# Altium footprint library DP_Slave_PCB.PcbLib: 27 footprints (part 2 of 2)
Each footprint in its own frame and in the unit in brackets; x right, y up, seen from the top. Pads: shape width x height; smd on the part's side, far side on the other; paste and mask are expansions set on the pad; w line width, h text height; cw(c..) or ccw(c..) is an arc to the next point about the centre after c.
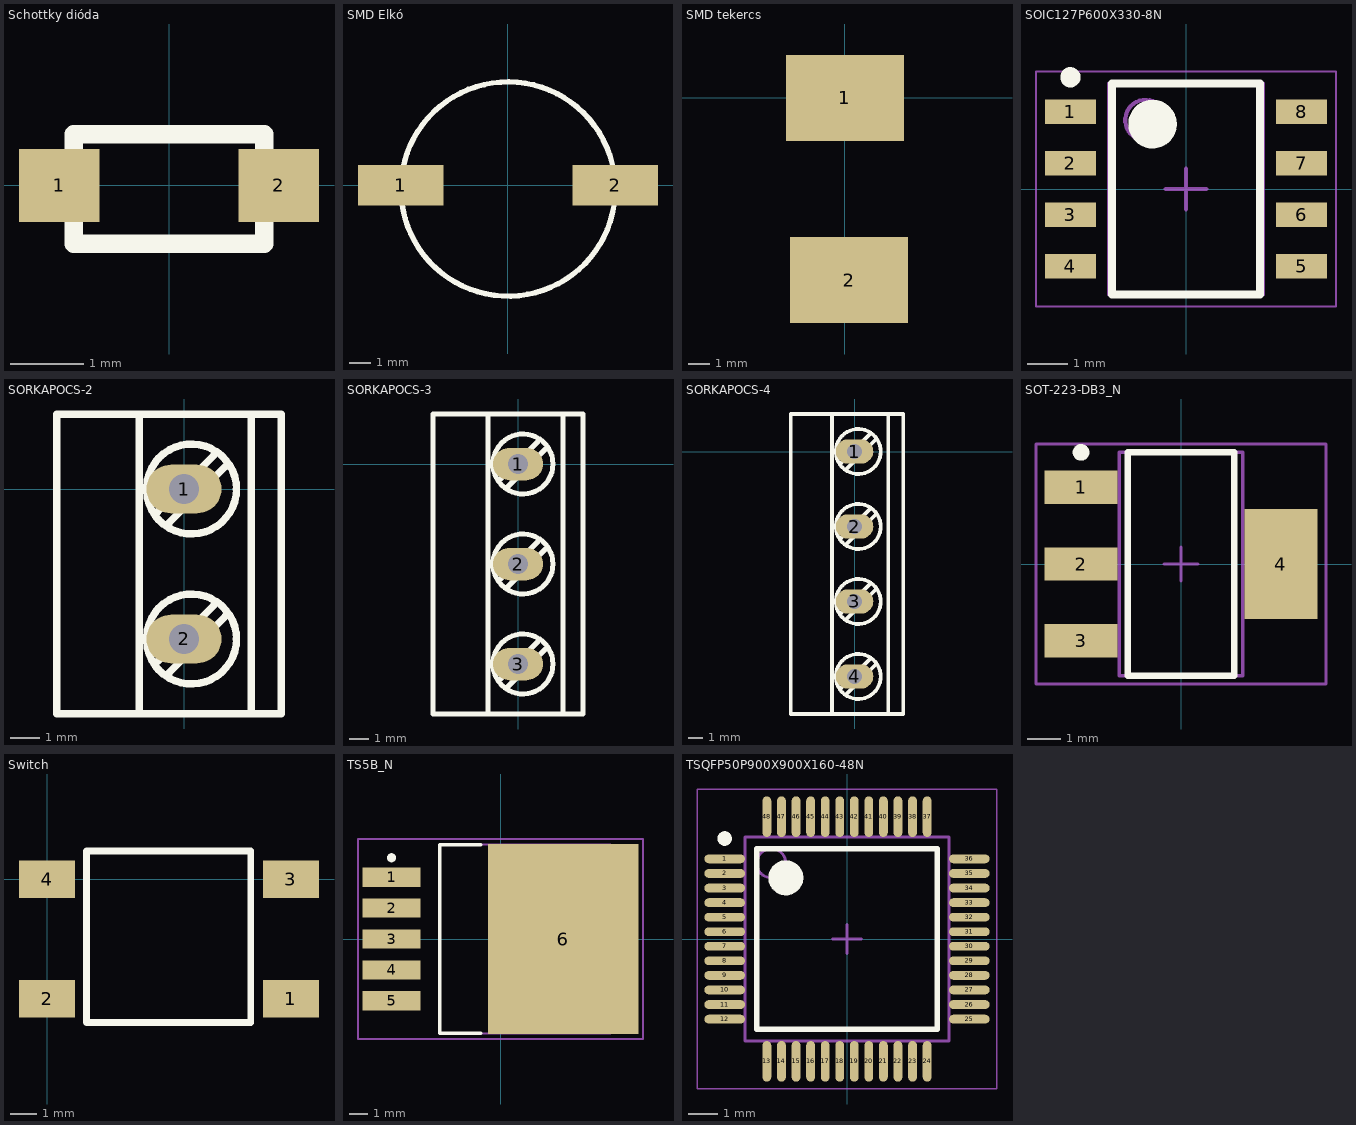
[diagram p1: the footprints below, top view; thin cyan lines are the x and y axes]

## Schottky dióda [mm]
pads (2):
  rect 1.1x1 smd: 1(-1.5,0) 2(1.5,0)
Top Overlay:
  lines w0.254: -1.3,-0.8 -1.3,0.7 1.3,0.7 1.3,-0.8 -1.3,-0.8

## SMD Elkó [mm]
pads (2):
  rect 4x1.9 smd: 1(-5,0) 2(5,0)
Top Overlay:
  lines w0.254: 5.005,-0.177 cw(c0.005,-0.177) 5.005,-0.1

## SMD tekercs [mm]
pads (2):
  rect 5.5x4 smd: 1(0,0) 2(0.2,-8.5)

## SOIC127P600X330-8N [mm]
pads (8):
  rect 1.25x0.6 smd: 1(-2.85,1.905) 2(-2.85,0.635) 3(-2.85,-0.635) 4(-2.85,-1.905) 5(2.85,-1.905) 6(2.85,-0.635) 7(2.85,0.635) 8(2.85,1.905)
Top Overlay:
  circle w0.6: c-0.825,1.6 r0.3
  circle w0.25: c-2.85,2.755 r0.125
  lines w0.2: -1.825,-2.6 1.825,-2.6 1.825,2.6 -1.825,2.6 -1.825,-2.6
Mechanical 13:
  circle w0.1: c-1,1.7 r0.5
  lines w0.1: -1.9,-2.6 1.9,-2.6 1.9,2.6 -1.9,2.6 -1.9,-2.6
Mechanical 15:
  lines w0.05: -3.7,-2.9 3.7,-2.9 3.7,2.9 -3.7,2.9 -3.7,-2.9
  lines w0.1: -0.5,0 0.5,0 ; 0,-0.5 0,0.5
3D body: height 3.3, standoff 0, extent -2.997,-2.6 2.997,2.6

## SORKAPOCS-2 [mil]
pads (2):
  oval 100x65 hole 40: 1(0,0) 2(0,-200)
Top Overlay:
  circle w10: c10,-200 r60
  circle w10: c10,0 r60
  lines w10: -60,-300 -60,100 ; -35,-230 40,-155 ; -35,-30 40,45 ; -20,-245 55,-170 ; -20,-45 55,30 ; 90,-300 90,100 ; -170,-300 -170,100 130,100 130,-300 -170,-300

## SORKAPOCS-3 [mil]
pads (3):
  oval 100x65 hole 40: 1(0,0) 2(0,-200) 3(0,-400)
Top Overlay:
  circle w10: c10,0 r60
  circle w10: c10,-200 r60
  circle w10: c10,-400 r60
  lines w10: -60,-500 -60,100 ; -35,-430 40,-355 ; -35,-230 40,-155 ; -35,-30 40,45 ; -20,-445 55,-370 ; -20,-245 55,-170 ; -20,-45 55,30 ; 90,-500 90,100 ; -170,-500 130,-500 130,100 -170,100 -170,-500

## SORKAPOCS-4 [mil]
pads (4):
  oval 100x65 hole 40: 1(0,0) 2(0,-200) 3(0,-400) 4(0,-600)
Top Overlay:
  circle w10: c10,-600 r60
  circle w10: c10,0 r60
  circle w10: c10,-200 r60
  circle w10: c10,-400 r60
  lines w10: -60,-700 -60,100 ; -35,-630 40,-555 ; -35,-430 40,-355 ; -35,-230 40,-155 ; -35,-30 40,45 ; -20,-645 55,-570 ; -20,-445 55,-370 ; -20,-245 55,-170 ; -20,-45 55,30 ; 90,-700 90,100 ; -170,-700 130,-700 130,100 -170,100 -170,-700

## SOT-223-DB3_N [mm]
pads (4):
  rect 2.2x1 smd: 1(-3,2.3) 2(-3,0) 3(-3,-2.3)
  rect 2.2x3.3 smd: 4(3,0)
Top Overlay:
  circle w0.25: c-3,3.35 r0.125
  lines w0.2: -1.6,-3.35 -1.6,3.35 1.6,3.35 1.6,-3.35 -1.6,-3.35
Mechanical 13:
  lines w0.1: -1.85,-3.35 -1.85,3.35 1.85,3.35 1.85,-3.35 -1.85,-3.35
Mechanical 15:
  lines w0.1: -0.5,0 0.5,0 ; 0,-0.5 0,0.5 ; -4.35,-3.6 -4.35,3.6 4.35,3.6 4.35,-3.6 -4.35,-3.6
3D body: height 1.8, standoff 0, extent -1.85,-3.35 1.85,3.35

## Switch [mm]
pads (4):
  rect 2.1x1.4 smd: 1(9.1,-4.46) 2(0,-4.46) 3(9.1,0) 4(0,0)
Top Overlay:
  lines w0.254: 1.475,-5.35 1.475,1.05 7.6,1.05 7.6,0.925 7.6,-5.35 7.45,-5.35 1.475,-5.35

## TS5B_N [mm]
pads (6):
  rect 3.2x1.05 smd: 1(-6,3.4) 2(-6,1.7) 3(-6,0) 4(-6,-1.7) 5(-6,-3.4)
  rect 8.3x10.45 smd: 6(3.45,0)
Top Overlay:
  circle w0.25: c-6,4.475 r0.125
  lines w0.2: -1.1,-5.2 -3.35,-5.2 -3.35,5.2 -1.1,5.2
Mechanical 13:
  lines w0.1: -3.35,-5.2 -3.35,5.2 6.05,5.2 6.05,-5.2 -3.35,-5.2
Mechanical 15:
  lines w0.1: -0.5,0 0.5,0 ; 0,-0.5 0,0.5 ; -7.85,-5.5 -7.85,5.5 7.85,5.5 7.85,-5.5 -7.85,-5.5
3D body: height 4.65, standoff 0, extent -3.35,-5.2 6.05,5.2

## TSQFP50P900X900X160-48N [mm]
pads (48):
  oval 1.4x0.3 smd: 1(-4.2,2.75) 2(-4.2,2.25) 3(-4.2,1.75) 4(-4.2,1.25) 5(-4.2,0.75) 6(-4.2,0.25) 7(-4.2,-0.25) 8(-4.2,-0.75) 9(-4.2,-1.25) 10(-4.2,-1.75) 11(-4.2,-2.25) 12(-4.2,-2.75) 25(4.2,-2.75) 26(4.2,-2.25) 27(4.2,-1.75) 28(4.2,-1.25) 29(4.2,-0.75) 30(4.2,-0.25) 31(4.2,0.25) 32(4.2,0.75) 33(4.2,1.25) 34(4.2,1.75) 35(4.2,2.25) 36(4.2,2.75)
  oval 0.3x1.4 smd: 13(-2.75,-4.2) 14(-2.25,-4.2) 15(-1.75,-4.2) 16(-1.25,-4.2) 17(-0.75,-4.2) 18(-0.25,-4.2) 19(0.25,-4.2) 20(0.75,-4.2) 21(1.25,-4.2) 22(1.75,-4.2) 23(2.25,-4.2) 24(2.75,-4.2) 37(2.75,4.2) 38(2.25,4.2) 39(1.75,4.2) 40(1.25,4.2) 41(0.75,4.2) 42(0.25,4.2) 43(-0.25,4.2) 44(-0.75,4.2) 45(-1.25,4.2) 46(-1.75,4.2) 47(-2.25,4.2) 48(-2.75,4.2)
Top Overlay:
  circle w0.6: c-2.1,2.1 r0.3
  circle w0.25: c-4.2,3.45 r0.125
  lines w0.2: -3.1,-3.1 3.1,-3.1 3.1,3.1 -3.1,3.1 -3.1,-3.1
Mechanical 13:
  circle w0.1: c-2.6,2.6 r0.5
  lines w0.1: -3.5,-3.5 3.5,-3.5 3.5,3.5 -3.5,3.5 -3.5,-3.5
Mechanical 15:
  lines w0.05: -5.15,-5.15 5.15,-5.15 5.15,5.15 -5.15,5.15 -5.15,-5.15
  lines w0.1: -0.5,0 0.5,0 ; 0,-0.5 0,0.5
3D body: height 1.6, standoff 0, extent -4.5,-4.5 4.5,4.5